# Altium footprint library jz_dlt0.51.PcbLib: 22 footprints (part 1 of 2)
Each footprint in its own frame and in the unit in brackets; x right, y up, seen from the top. Pads: shape width x height; smd on the part's side, far side on the other; paste and mask are expansions set on the pad; w line width, h text height; cw(c..) or ccw(c..) is an arc to the next point about the centre after c.
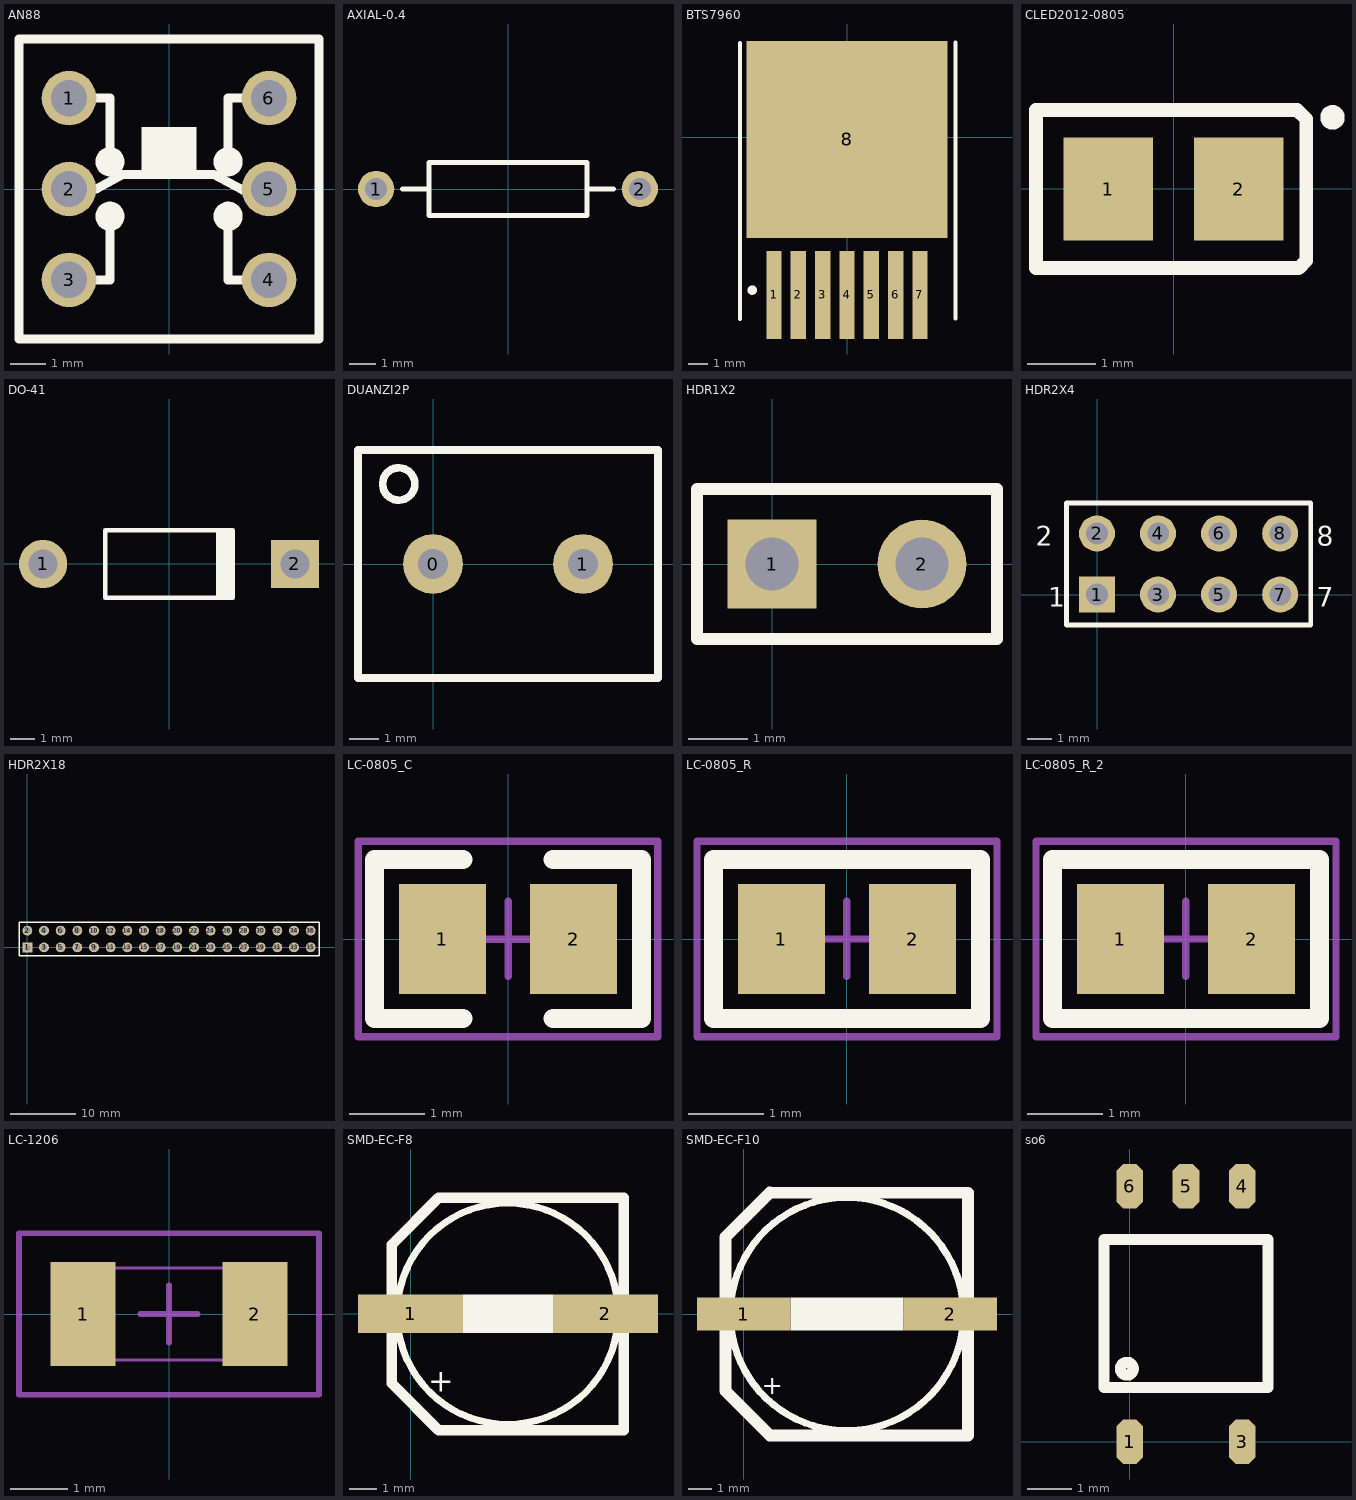
[diagram p0: the footprints below, top view; thin cyan lines are the x and y axes]

## AN88 [mil]
pads (6):
  round 60 hole 40: 1(-110,100) 2(-110,0) 3(-110,-100) 4(110,-100) 5(110,0) 6(110,100)
Top Overlay:
  circle w18: c-65,-30 r7.07
  circle w18: c65,-30 r7.07
  circle w18: c65,30 r7.07
  circle w18: c-65,30 r7.07
  rectangle: -30,16 30,68
  lines w10: -110,-100 -65,-100 -65,-40 ; -110,0 -80,0 -51,16 49,16 81,-1 109,-1 110,0 ; -110,100 -65,100 -65,30 ; 65,-40 65,-100 110,-100 ; 65,40 65,100 110,100 ; -165,-165 165,-165 165,165 -165,165 -165,-165

## AXIAL-0.4 [mm] "Axial Device, Thru-Hole; 2 Leads; 0.4 in Pin Spacing"
height 2.032
pads (2):
  round 1.4 hole 0.85: 1(-5.08,0) 2(5.08,0)
Top Overlay:
  lines w0.2: -4.064,0 -3.048,0 ; 3.048,0 4.064,0 ; -3.048,-1.016 -3.048,1.016 3.048,1.016 3.048,-1.016 -3.048,-1.016

## BTS7960 [mm] "贴片BTS7960"
pads (8):
  rect 0.8x4.6 smd: 1(-3.81,-8.255) 2(-2.54,-8.255) 3(-1.27,-8.255) 4(0,-8.255) 5(1.27,-8.255) 6(2.54,-8.255) 7(3.81,-8.255)
  rect 10.5x10.3 smd: 8(0,-0.127)
Top Overlay:
  circle w0.25: c-4.951,-8.001 r0.125
  lines w0.2: -5.588,-9.525 -5.588,4.925 ; 5.677,-9.493 5.677,4.957

## CLED2012-0805 [mm]
pads (2):
  rect 1.3x1.5 smd: 1(-0.95,0) 2(0.95,0)
Top Overlay:
  circle w0.254: c2.311,1.041 r0.051
  lines w0.2: -2,-1.15 -2,1.15 1.5,1.15 1.796,1.15 1.93,1.016 1.93,-1.041 1.822,-1.15 1.5,-1.15 -2,-1.15
3D body "LED0805.STEP": height 0.7, standoff 0, extent -1,-0.625 1,0.625

## DO-41 [mm] "Diode, Axial; Body 5.2 x 2.7 mm (LxDia. max), Lead Dia. 0.86 mm (max)"
height 2.8
pads (2):
  round 2 hole 1.2: 1(-5.23,0)
  rect 2x2 hole 1.2: 2(5.23,0)
Top Overlay:
  rectangle: 1.95,-1.4 2.75,1.4
  lines w0.2: 2.65,-1.4 -2.65,-1.4 -2.65,1.4 2.65,1.4

## DUANZI2P [mm]
pads (2):
  round 2 hole 1: 0(0,0) 1(5,0)
Top Overlay:
  circle w0.254: c-1.143,2.667 r0.539
  lines w0.254: -2.5,-3.8 -2.5,3.8 7.5,3.8 7.5,-3.8 -2.5,-3.8

## HDR1X2 [mm] "Connector; Header; 2 Position"
pads (2):
  rect 1.5x1.5 hole 0.9: 1(0,0)
  round 1.5 hole 0.9: 2(2.54,0)
Top Overlay:
  lines w0.2: -1.27,-1.27 -1.27,1.27 3.81,1.27 3.81,-1.27 -1.27,-1.27

## HDR2X4 [mm] "Connector; Header; 4x2 Position"
pads (8):
  rect 1.5x1.5 hole 0.9: 1(0,0)
  round 1.5 hole 0.9: 2(0,2.54) 3(2.54,0) 4(2.54,2.54) 5(5.08,0) 6(5.08,2.54) 7(7.62,0) 8(7.62,2.54)
Top Overlay:
  lines w0.2: -1.27,-1.27 -1.27,3.81 8.89,3.81 8.89,-1.27 -1.27,-1.27
  text "8" at 9.144,2.032 h0.8
  text "7" at 9.144,-0.508 h0.8
  text "1" at -2.032,-0.508 h0.8
  text "2" at -2.54,2.032 h0.8

## HDR2X18 [mm] "Connector; Header; 18x2 Position"
pads (36):
  rect 1.5x1.5 hole 0.9: 1(0,0)
  round 1.5 hole 0.9: 2(0,2.54) 3(2.54,0) 4(2.54,2.54) 5(5.08,0) 6(5.08,2.54) 7(7.62,0) 8(7.62,2.54) 9(10.16,0) 10(10.16,2.54) 11(12.7,0) 12(12.7,2.54) 13(15.24,0) 14(15.24,2.54) 15(17.78,0) 16(17.78,2.54) 17(20.32,0) 18(20.32,2.54) 19(22.86,0) 20(22.86,2.54) 21(25.4,0) 22(25.4,2.54) 23(27.94,0) 24(27.94,2.54) 25(30.48,0) 26(30.48,2.54) 27(33.02,0) 28(33.02,2.54) 29(35.56,0) 30(35.56,2.54) 31(38.1,0) 32(38.1,2.54) 33(40.64,0) 34(40.64,2.54) 35(43.18,0) 36(43.18,2.54)
Top Overlay:
  lines w0.2: -1.27,-1.27 -1.27,3.81 44.45,3.81 44.45,-1.27 -1.27,-1.27

## LC-0805_C [mm]
pads (2):
  rect 1.16x1.47 smd: 1(-0.875,0) 2(0.875,0)
Top Overlay:
  lines w0.254: -0.6,-1.062 -1.782,-1.062 -1.782,1.062 -0.6,1.062 ; 0.6,-1.062 1.782,-1.062 1.782,1.062 0.6,1.062
Mechanical 15:
  lines w0.1: -0.5,0 0.5,0 ; 0,-0.5 0,0.5 ; -2,-1.3 -2,1.3 2,1.3 2,-1.3 -2,-1.3
3D body "User Library-0805 SMD Capacitor.STEP": height 0.77, standoff -0.01, extent -0.999,-0.625 1.001,0.625

## LC-0805_R [mm]
pads (2):
  rect 1.16x1.47 smd: 1(-0.875,0) 2(0.875,0)
Top Overlay:
  lines w0.254: -1.782,-1.062 1.782,-1.062 1.782,1.062 -1.782,1.062 -1.782,-1.062
Mechanical 15:
  lines w0.1: -0.5,0 0.5,0 ; 0,-0.5 0,0.5 ; -2,-1.3 -2,1.3 2,1.3 2,-1.3 -2,-1.3
3D body "User Library-R_0805.STEP": height 0.49, standoff -0.01, extent -0.997,-0.625 1.003,0.625

## LC-0805_R_2 [mm]
pads (2):
  rect 1.16x1.47 smd: 1(-0.875,0) 2(0.875,0)
Top Overlay:
  lines w0.254: -1.782,-1.062 1.782,-1.062 1.782,1.062 -1.782,1.062 -1.782,-1.062
Mechanical 15:
  lines w0.1: -0.5,0 0.5,0 ; 0,-0.5 0,0.5 ; -2,-1.3 -2,1.3 2,1.3 2,-1.3 -2,-1.3
3D body "User Library-R_0805.STEP": height 0.49, standoff -0.01, extent -0.997,-0.625 1.003,0.625

## LC-1206 [mm]
pads (2):
  rect 1.13x1.8 smd: 1(-1.49,0) 2(1.49,0)
Mechanical 13:
  lines w0.05: -1.6,-0.8 -1.6,0.8 1.6,0.8 1.6,-0.8 -1.6,-0.8
Mechanical 15:
  lines w0.1: -0.5,0 0.5,0 ; 0,-0.5 0,0.5 ; -2.6,-1.4 -2.6,1.4 2.6,1.4 2.6,-1.4 -2.6,-1.4

## SMD-EC-F8 [mm]
pads (2):
  rect 3.8x1.4 smd: 1(0,0) 2(7.051,0)
Top Overlay:
  rectangle: 1.89,-0.7 5.153,0.7
  lines w0.254: 7.515,0 ccw(c3.515,0) 7.515,0
  lines w0.381: -0.686,2.499 1.013,4.198 ; -0.686,2.499 -0.686,-2.52 1.013,-4.219 7.714,-4.219 7.714,4.198 1.013,4.198 ; -0.686,2.499 1.013,4.198
  text "+" at 0.64,-2.818 h0.8

## SMD-EC-F10 [mm]
pads (2):
  rect 4x1.4 smd: 1(0,0) 2(8.86,0)
Top Overlay:
  circle w0.305: c4.422,0 r5
  rectangle: 2.006,-0.701 6.849,0.707
  lines w0.508: 1.12,5.203 -0.778,3.306 -0.778,-3.304 1.12,-5.201 9.62,-5.201 9.62,5.2 1.123,5.2
  text "+" at 0.78,-3.44 h0.8

## so6 [mm]
pads (5):
  oct 0.6x1 smd: 1(0,0) 3(2.54,0) 4(2.54,5.775) 5(1.27,5.775) 6(0,5.775)
Top Overlay:
  circle w0.254: c-0.067,1.651 r0.144
  lines w0.254: -0.58,1.225 3.12,1.225 3.12,4.572 -0.58,4.572 -0.58,1.225